# Altium footprint library PCB - CONNECTOR - SAMTEC - SAMTEC TSW-104-08-G-T-RA.PcbLib: 1 footprints
Each footprint in its own frame and in the unit in brackets; x right, y up, seen from the top. Pads: shape width x height; smd on the part's side, far side on the other; paste and mask are expansions set on the pad; w line width, h text height; cw(c..) or ccw(c..) is an arc to the next point about the centre after c.
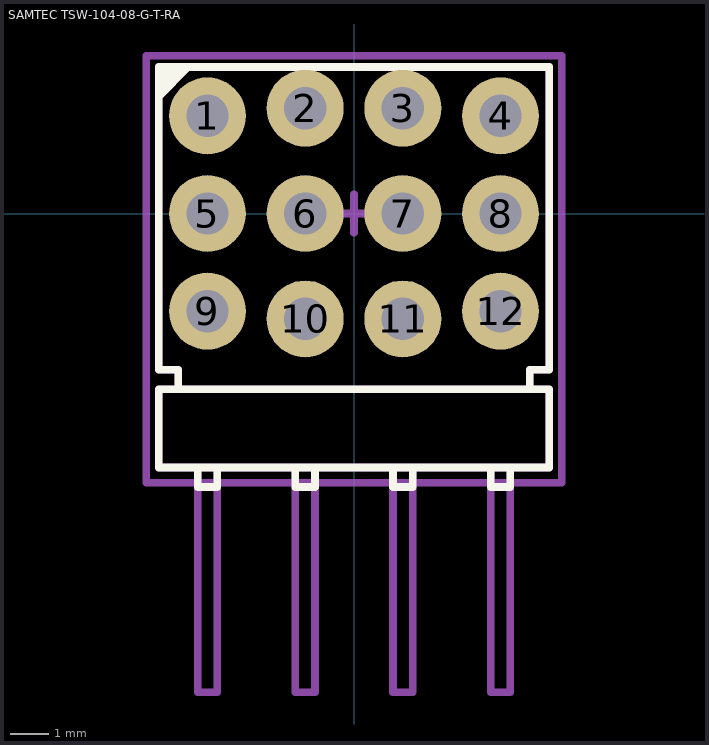
[diagram p0: the footprint, top view; thin cyan lines are the x and y axes]

## SAMTEC TSW-104-08-G-T-RA [mm] "2.54mm TIL PC TAIL PIN HEADER ASSEMBLY"
height 8.13
pads (12):
  round 2 hole 1.1: 1(-3.81,2.54) 2(-1.27,2.74) 3(1.27,2.74) 4(3.81,2.54) 5(-3.81,0) 6(-1.27,0) 7(1.27,0) 8(3.81,0) 9(-3.81,-2.54) 10(-1.27,-2.74) 11(1.27,-2.74) 12(3.81,-2.54)
Top Overlay:
  region: -5.08,3.81 -5.08,2.91 -4.18,3.81
  lines w0.2: -4.064,-6.604 -4.064,-7.112 -3.556,-7.112 -3.556,-6.604 ; -1.524,-6.604 -1.524,-7.112 -1.016,-7.112 -1.016,-6.604 ; 1.016,-6.604 1.016,-7.112 1.524,-7.112 1.524,-6.604 ; 3.556,-6.604 3.556,-7.112 4.064,-7.112 4.064,-6.604 ; -4.572,-4.572 -4.572,-4.064 -5.08,-4.064 -5.08,3.81 5.08,3.81 5.08,-4.064 4.572,-4.064 4.572,-4.572 ; -4.572,-4.572 -5.08,-4.572 -5.08,-6.604 5.08,-6.604 5.08,-4.572 4.572,-4.572 ; -4.572,-4.572 4.572,-4.572
Top Assembly:
  lines w0.2: -4.064,-6.604 -4.064,-12.446 -3.556,-12.446 -3.556,-6.604 ; -1.524,-6.604 -1.524,-12.446 -1.016,-12.446 -1.016,-6.604 ; -0.5,0 0.5,0 ; 0,-0.5 0,0.5 ; 1.016,-6.604 1.016,-12.446 1.524,-12.446 1.524,-6.604 ; 3.556,-6.604 3.556,-12.446 4.064,-12.446 4.064,-6.604 ; -4.572,-4.572 -4.572,-4.064 -5.08,-4.064 -5.08,3.81 5.08,3.81 5.08,-4.064 4.572,-4.064 4.572,-4.572 ; -4.572,-4.572 -5.08,-4.572 -5.08,-6.604 5.08,-6.604 5.08,-4.572 4.572,-4.572 ; -4.572,-4.572 4.572,-4.572
Top Courtyard (Mech15):
  lines w0.2: -5.4,-7 5.4,-7 5.4,4.1 -5.4,4.1 -5.4,-7
3D body "Samtec - TSW-104-08-G-T-RA.step": height 8.13, standoff -2.29, extent -5.08,-12.446 5.08,2.857